# EAGLE library part DIL8 (library icl7660)
Dual In Line / Socket
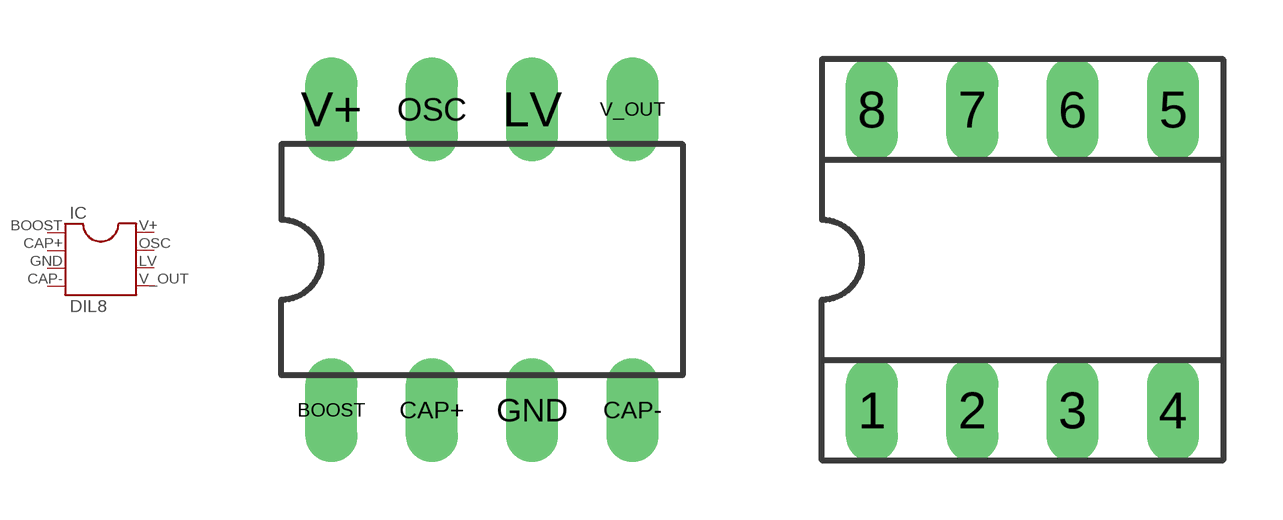
[diagram p0: symbol with the pads of DIL08; footprints DIL08, SOCKET-08]

Designator prefix IC

## DIL8  [DIL08]
BOOST  1  pas
CAP+  2  pas
CAP-  4  pas
GND  3  pas
LV  6  pas
OSC  7  pas
V+  8  pas
V_OUT  5  pas

## DIL8S  [SOCKET-08]
1  1  pas
2  2  pas
3  3  pas
4  4  pas
5  5  pas
6  6  pas
7  7  pas
8  8  pas

## Footprint DIL08 (pad centres in mm)
Dual In Line Package
drill 0.813 long: BOOST -3.81,-3.81; CAP+ -1.27,-3.81; CAP- 3.81,-3.81; GND 1.27,-3.81; LV 1.27,3.81; OSC -1.27,3.81; V+ -3.81,3.81; V_OUT 3.81,3.81

## Footprint SOCKET-08 (pad centres in mm)
Dual In Line Socket
drill 0.813 long: 1 -3.81,-3.81; 2 -1.27,-3.81; 3 1.27,-3.81; 4 3.81,-3.81; 5 3.81,3.81; 6 1.27,3.81; 7 -1.27,3.81; 8 -3.81,3.81